# Altium schematic symbol library SCH - MCU - INFINEON - INFINEON S6E2CCAL0XXL2 LQFP-216.SchLib: 1 symbol
Pins are listed as number, name and electrical type; pins without a type are passive.

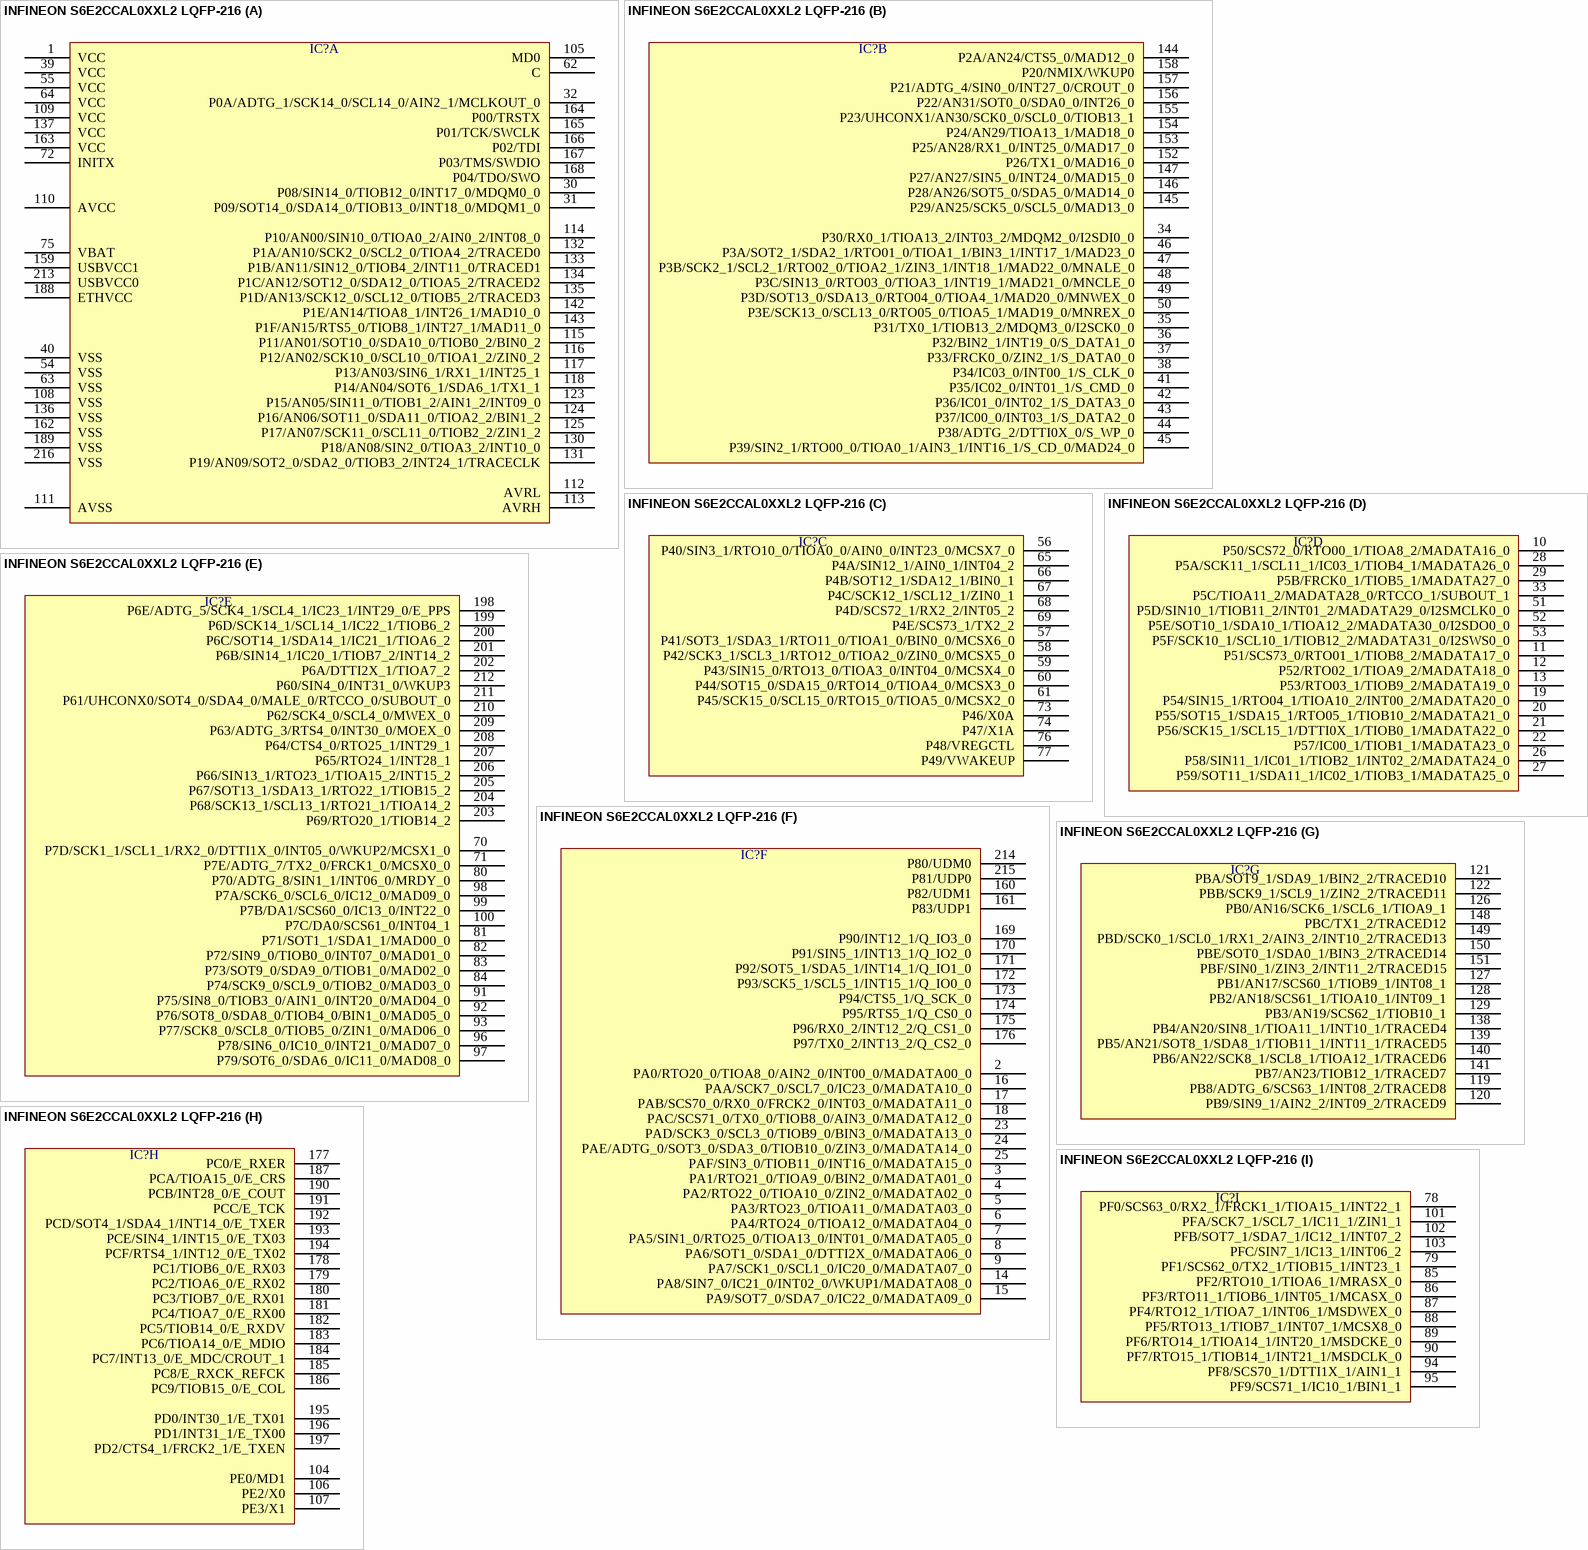
[diagram p0: symbol INFINEON S6E2CCAL0XXL2 LQFP-216]

## INFINEON S6E2CCAL0XXL2 LQFP-216
designator IC?  (value not drawn)
part A pins: 1 VCC, 30 P08/SIN14_0/TIOB12_0/INT17_0/MDQM0_0, 31 P09/SOT14_0/SDA14_0/TIOB13_0/INT18_0/MDQM1_0, 32 P0A/ADTG_1/SCK14_0/SCL14_0/AIN2_1/MCLKOUT_0, 39 VCC, 40 VSS, 54 VSS, 55 VCC, 62 C, 63 VSS, 64 VCC, 72 INITX, 75 VBAT, 105 MD0, 108 VSS, 109 VCC, 110 AVCC, 111 AVSS, 112 AVRL, 113 AVRH, 114 P10/AN00/SIN10_0/TIOA0_2/AIN0_2/INT08_0, 115 P11/AN01/SOT10_0/SDA10_0/TIOB0_2/BIN0_2, 116 P12/AN02/SCK10_0/SCL10_0/TIOA1_2/ZIN0_2, 117 P13/AN03/SIN6_1/RX1_1/INT25_1, 118 P14/AN04/SOT6_1/SDA6_1/TX1_1, 123 P15/AN05/SIN11_0/TIOB1_2/AIN1_2/INT09_0, 124 P16/AN06/SOT11_0/SDA11_0/TIOA2_2/BIN1_2, 125 P17/AN07/SCK11_0/SCL11_0/TIOB2_2/ZIN1_2, 130 P18/AN08/SIN2_0/TIOA3_2/INT10_0, 131 P19/AN09/SOT2_0/SDA2_0/TIOB3_2/INT24_1/TRACECLK, 132 P1A/AN10/SCK2_0/SCL2_0/TIOA4_2/TRACED0, 133 P1B/AN11/SIN12_0/TIOB4_2/INT11_0/TRACED1, 134 P1C/AN12/SOT12_0/SDA12_0/TIOA5_2/TRACED2, 135 P1D/AN13/SCK12_0/SCL12_0/TIOB5_2/TRACED3, 136 VSS, 137 VCC, 142 P1E/AN14/TIOA8_1/INT26_1/MAD10_0, 143 P1F/AN15/RTS5_0/TIOB8_1/INT27_1/MAD11_0, 159 USBVCC1, 162 VSS, 163 VCC, 164 P00/TRSTX, 165 P01/TCK/SWCLK, 166 P02/TDI, 167 P03/TMS/SWDIO, 168 P04/TDO/SWO, 188 ETHVCC, 189 VSS, 213 USBVCC0, 216 VSS
part B pins: 34 P30/RX0_1/TIOA13_2/INT03_2/MDQM2_0/I2SDI0_0, 35 P31/TX0_1/TIOB13_2/MDQM3_0/I2SCK0_0, 36 P32/BIN2_1/INT19_0/S_DATA1_0, 37 P33/FRCK0_0/ZIN2_1/S_DATA0_0, 38 P34/IC03_0/INT00_1/S_CLK_0, 41 P35/IC02_0/INT01_1/S_CMD_0, 42 P36/IC01_0/INT02_1/S_DATA3_0, 43 P37/IC00_0/INT03_1/S_DATA2_0, 44 P38/ADTG_2/DTTI0X_0/S_WP_0, 45 P39/SIN2_1/RTO00_0/TIOA0_1/AIN3_1/INT16_1/S_CD_0/MAD24_0, 46 P3A/SOT2_1/SDA2_1/RTO01_0/TIOA1_1/BIN3_1/INT17_1/MAD23_0, 47 P3B/SCK2_1/SCL2_1/RTO02_0/TIOA2_1/ZIN3_1/INT18_1/MAD22_0/MNALE_0, 48 P3C/SIN13_0/RTO03_0/TIOA3_1/INT19_1/MAD21_0/MNCLE_0, 49 P3D/SOT13_0/SDA13_0/RTO04_0/TIOA4_1/MAD20_0/MNWEX_0, 50 P3E/SCK13_0/SCL13_0/RTO05_0/TIOA5_1/MAD19_0/MNREX_0, 144 P2A/AN24/CTS5_0/MAD12_0, 145 P29/AN25/SCK5_0/SCL5_0/MAD13_0, 146 P28/AN26/SOT5_0/SDA5_0/MAD14_0, 147 P27/AN27/SIN5_0/INT24_0/MAD15_0, 152 P26/TX1_0/MAD16_0, 153 P25/AN28/RX1_0/INT25_0/MAD17_0, 154 P24/AN29/TIOA13_1/MAD18_0, 155 P23/UHCONX1/AN30/SCK0_0/SCL0_0/TIOB13_1, 156 P22/AN31/SOT0_0/SDA0_0/INT26_0, 157 P21/ADTG_4/SIN0_0/INT27_0/CROUT_0, 158 P20/NMIX/WKUP0
part C pins: 56 P40/SIN3_1/RTO10_0/TIOA0_0/AIN0_0/INT23_0/MCSX7_0, 57 P41/SOT3_1/SDA3_1/RTO11_0/TIOA1_0/BIN0_0/MCSX6_0, 58 P42/SCK3_1/SCL3_1/RTO12_0/TIOA2_0/ZIN0_0/MCSX5_0, 59 P43/SIN15_0/RTO13_0/TIOA3_0/INT04_0/MCSX4_0, 60 P44/SOT15_0/SDA15_0/RTO14_0/TIOA4_0/MCSX3_0, 61 P45/SCK15_0/SCL15_0/RTO15_0/TIOA5_0/MCSX2_0, 65 P4A/SIN12_1/AIN0_1/INT04_2, 66 P4B/SOT12_1/SDA12_1/BIN0_1, 67 P4C/SCK12_1/SCL12_1/ZIN0_1, 68 P4D/SCS72_1/RX2_2/INT05_2, 69 P4E/SCS73_1/TX2_2, 73 P46/X0A, 74 P47/X1A, 76 P48/VREGCTL, 77 P49/VWAKEUP
part D pins: 10 P50/SCS72_0/RTO00_1/TIOA8_2/MADATA16_0, 11 P51/SCS73_0/RTO01_1/TIOB8_2/MADATA17_0, 12 P52/RTO02_1/TIOA9_2/MADATA18_0, 13 P53/RTO03_1/TIOB9_2/MADATA19_0, 19 P54/SIN15_1/RTO04_1/TIOA10_2/INT00_2/MADATA20_0, 20 P55/SOT15_1/SDA15_1/RTO05_1/TIOB10_2/MADATA21_0, 21 P56/SCK15_1/SCL15_1/DTTI0X_1/TIOB0_1/MADATA22_0, 22 P57/IC00_1/TIOB1_1/MADATA23_0, 26 P58/SIN11_1/IC01_1/TIOB2_1/INT02_2/MADATA24_0, 27 P59/SOT11_1/SDA11_1/IC02_1/TIOB3_1/MADATA25_0, 28 P5A/SCK11_1/SCL11_1/IC03_1/TIOB4_1/MADATA26_0, 29 P5B/FRCK0_1/TIOB5_1/MADATA27_0, 33 P5C/TIOA11_2/MADATA28_0/RTCCO_1/SUBOUT_1, 51 P5D/SIN10_1/TIOB11_2/INT01_2/MADATA29_0/I2SMCLK0_0, 52 P5E/SOT10_1/SDA10_1/TIOA12_2/MADATA30_0/I2SDO0_0, 53 P5F/SCK10_1/SCL10_1/TIOB12_2/MADATA31_0/I2SWS0_0
part E pins: 70 P7D/SCK1_1/SCL1_1/RX2_0/DTTI1X_0/INT05_0/WKUP2/MCSX1_0, 71 P7E/ADTG_7/TX2_0/FRCK1_0/MCSX0_0, 80 P70/ADTG_8/SIN1_1/INT06_0/MRDY_0, 81 P71/SOT1_1/SDA1_1/MAD00_0, 82 P72/SIN9_0/TIOB0_0/INT07_0/MAD01_0, 83 P73/SOT9_0/SDA9_0/TIOB1_0/MAD02_0, 84 P74/SCK9_0/SCL9_0/TIOB2_0/MAD03_0, 91 P75/SIN8_0/TIOB3_0/AIN1_0/INT20_0/MAD04_0, 92 P76/SOT8_0/SDA8_0/TIOB4_0/BIN1_0/MAD05_0, 93 P77/SCK8_0/SCL8_0/TIOB5_0/ZIN1_0/MAD06_0, 96 P78/SIN6_0/IC10_0/INT21_0/MAD07_0, 97 P79/SOT6_0/SDA6_0/IC11_0/MAD08_0, 98 P7A/SCK6_0/SCL6_0/IC12_0/MAD09_0, 99 P7B/DA1/SCS60_0/IC13_0/INT22_0, 100 P7C/DA0/SCS61_0/INT04_1, 198 P6E/ADTG_5/SCK4_1/SCL4_1/IC23_1/INT29_0/E_PPS, 199 P6D/SCK14_1/SCL14_1/IC22_1/TIOB6_2, 200 P6C/SOT14_1/SDA14_1/IC21_1/TIOA6_2, 201 P6B/SIN14_1/IC20_1/TIOB7_2/INT14_2, 202 P6A/DTTI2X_1/TIOA7_2, 203 P69/RTO20_1/TIOB14_2, 204 P68/SCK13_1/SCL13_1/RTO21_1/TIOA14_2, 205 P67/SOT13_1/SDA13_1/RTO22_1/TIOB15_2, 206 P66/SIN13_1/RTO23_1/TIOA15_2/INT15_2, 207 P65/RTO24_1/INT28_1, 208 P64/CTS4_0/RTO25_1/INT29_1, 209 P63/ADTG_3/RTS4_0/INT30_0/MOEX_0, 210 P62/SCK4_0/SCL4_0/MWEX_0, 211 P61/UHCONX0/SOT4_0/SDA4_0/MALE_0/RTCCO_0/SUBOUT_0, 212 P60/SIN4_0/INT31_0/WKUP3
part F pins: 2 PA0/RTO20_0/TIOA8_0/AIN2_0/INT00_0/MADATA00_0, 3 PA1/RTO21_0/TIOA9_0/BIN2_0/MADATA01_0, 4 PA2/RTO22_0/TIOA10_0/ZIN2_0/MADATA02_0, 5 PA3/RTO23_0/TIOA11_0/MADATA03_0, 6 PA4/RTO24_0/TIOA12_0/MADATA04_0, 7 PA5/SIN1_0/RTO25_0/TIOA13_0/INT01_0/MADATA05_0, 8 PA6/SOT1_0/SDA1_0/DTTI2X_0/MADATA06_0, 9 PA7/SCK1_0/SCL1_0/IC20_0/MADATA07_0, 14 PA8/SIN7_0/IC21_0/INT02_0/WKUP1/MADATA08_0, 15 PA9/SOT7_0/SDA7_0/IC22_0/MADATA09_0, 16 PAA/SCK7_0/SCL7_0/IC23_0/MADATA10_0, 17 PAB/SCS70_0/RX0_0/FRCK2_0/INT03_0/MADATA11_0, 18 PAC/SCS71_0/TX0_0/TIOB8_0/AIN3_0/MADATA12_0, 23 PAD/SCK3_0/SCL3_0/TIOB9_0/BIN3_0/MADATA13_0, 24 PAE/ADTG_0/SOT3_0/SDA3_0/TIOB10_0/ZIN3_0/MADATA14_0, 25 PAF/SIN3_0/TIOB11_0/INT16_0/MADATA15_0, 160 P82/UDM1, 161 P83/UDP1, 169 P90/INT12_1/Q_IO3_0, 170 P91/SIN5_1/INT13_1/Q_IO2_0, 171 P92/SOT5_1/SDA5_1/INT14_1/Q_IO1_0, 172 P93/SCK5_1/SCL5_1/INT15_1/Q_IO0_0, 173 P94/CTS5_1/Q_SCK_0, 174 P95/RTS5_1/Q_CS0_0, 175 P96/RX0_2/INT12_2/Q_CS1_0, 176 P97/TX0_2/INT13_2/Q_CS2_0, 214 P80/UDM0, 215 P81/UDP0
part G pins: 119 PB8/ADTG_6/SCS63_1/INT08_2/TRACED8, 120 PB9/SIN9_1/AIN2_2/INT09_2/TRACED9, 121 PBA/SOT9_1/SDA9_1/BIN2_2/TRACED10, 122 PBB/SCK9_1/SCL9_1/ZIN2_2/TRACED11, 126 PB0/AN16/SCK6_1/SCL6_1/TIOA9_1, 127 PB1/AN17/SCS60_1/TIOB9_1/INT08_1, 128 PB2/AN18/SCS61_1/TIOA10_1/INT09_1, 129 PB3/AN19/SCS62_1/TIOB10_1, 138 PB4/AN20/SIN8_1/TIOA11_1/INT10_1/TRACED4, 139 PB5/AN21/SOT8_1/SDA8_1/TIOB11_1/INT11_1/TRACED5, 140 PB6/AN22/SCK8_1/SCL8_1/TIOA12_1/TRACED6, 141 PB7/AN23/TIOB12_1/TRACED7, 148 PBC/TX1_2/TRACED12, 149 PBD/SCK0_1/SCL0_1/RX1_2/AIN3_2/INT10_2/TRACED13, 150 PBE/SOT0_1/SDA0_1/BIN3_2/TRACED14, 151 PBF/SIN0_1/ZIN3_2/INT11_2/TRACED15
part H pins: 104 PE0/MD1, 106 PE2/X0, 107 PE3/X1, 177 PC0/E_RXER, 178 PC1/TIOB6_0/E_RX03, 179 PC2/TIOA6_0/E_RX02, 180 PC3/TIOB7_0/E_RX01, 181 PC4/TIOA7_0/E_RX00, 182 PC5/TIOB14_0/E_RXDV, 183 PC6/TIOA14_0/E_MDIO, 184 PC7/INT13_0/E_MDC/CROUT_1, 185 PC8/E_RXCK_REFCK, 186 PC9/TIOB15_0/E_COL, 187 PCA/TIOA15_0/E_CRS, 190 PCB/INT28_0/E_COUT, 191 PCC/E_TCK, 192 PCD/SOT4_1/SDA4_1/INT14_0/E_TXER, 193 PCE/SIN4_1/INT15_0/E_TX03, 194 PCF/RTS4_1/INT12_0/E_TX02, 195 PD0/INT30_1/E_TX01, 196 PD1/INT31_1/E_TX00, 197 PD2/CTS4_1/FRCK2_1/E_TXEN
part I pins: 78 PF0/SCS63_0/RX2_1/FRCK1_1/TIOA15_1/INT22_1, 79 PF1/SCS62_0/TX2_1/TIOB15_1/INT23_1, 85 PF2/RTO10_1/TIOA6_1/MRASX_0, 86 PF3/RTO11_1/TIOB6_1/INT05_1/MCASX_0, 87 PF4/RTO12_1/TIOA7_1/INT06_1/MSDWEX_0, 88 PF5/RTO13_1/TIOB7_1/INT07_1/MCSX8_0, 89 PF6/RTO14_1/TIOA14_1/INT20_1/MSDCKE_0, 90 PF7/RTO15_1/TIOB14_1/INT21_1/MSDCLK_0, 94 PF8/SCS70_1/DTTI1X_1/AIN1_1, 95 PF9/SCS71_1/IC10_1/BIN1_1, 101 PFA/SCK7_1/SCL7_1/IC11_1/ZIN1_1, 102 PFB/SOT7_1/SDA7_1/IC12_1/INT07_2, 103 PFC/SIN7_1/IC13_1/INT06_2